# Altium schematic symbol library SCH - CRYSTALS - NDK CRYSTAL NX2520SA.SCHLIB: 1 symbol
Pins are listed as number, name and electrical type; pins without a type are passive.

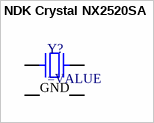
[diagram p0: symbol NDK Crystal NX2520SA]

## NDK Crystal NX2520SA
designator Y?
SMT Crystal
pins: 1, 2 GND, 3, 4 GND